# EAGLE library part WS2811 (library misc)
SOP-8_150mil LED Drivers RoH
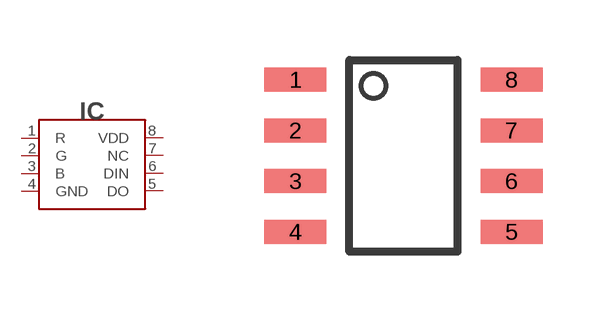
[diagram p23: symbol with the pads of SOIC8; footprint SOIC8]

Designator prefix IC

## WS2811 (LCSC#: C114581; MANF: Worldsemi; MANF#: WS2811)  [SOIC8]
1  R
2  G
3  B
4  GND
5  DO
6  DIN
7  NC
8  VDD

## Footprint SOIC8 (pad centres in mm)
https://www.ti.com/lit/ds/snvsaq5a/snvsaq5a.pdf?ts=1602424164509
smd 1.55 x 0.6: 1 -2.7,1.905; 2 -2.7,0.635; 3 -2.7,-0.635; 4 -2.7,-1.905; 5 2.7,-1.905; 6 2.7,-0.635; 7 2.7,0.635; 8 2.7,1.905